# Altium footprint library Harting_DSub.PcbLib: 7 footprints
Each footprint in its own frame and in the unit in brackets; x right, y up, seen from the top. Pads: shape width x height; smd on the part's side, far side on the other; paste and mask are expansions set on the pad; w line width, h text height; cw(c..) or ccw(c..) is an arc to the next point about the centre after c.
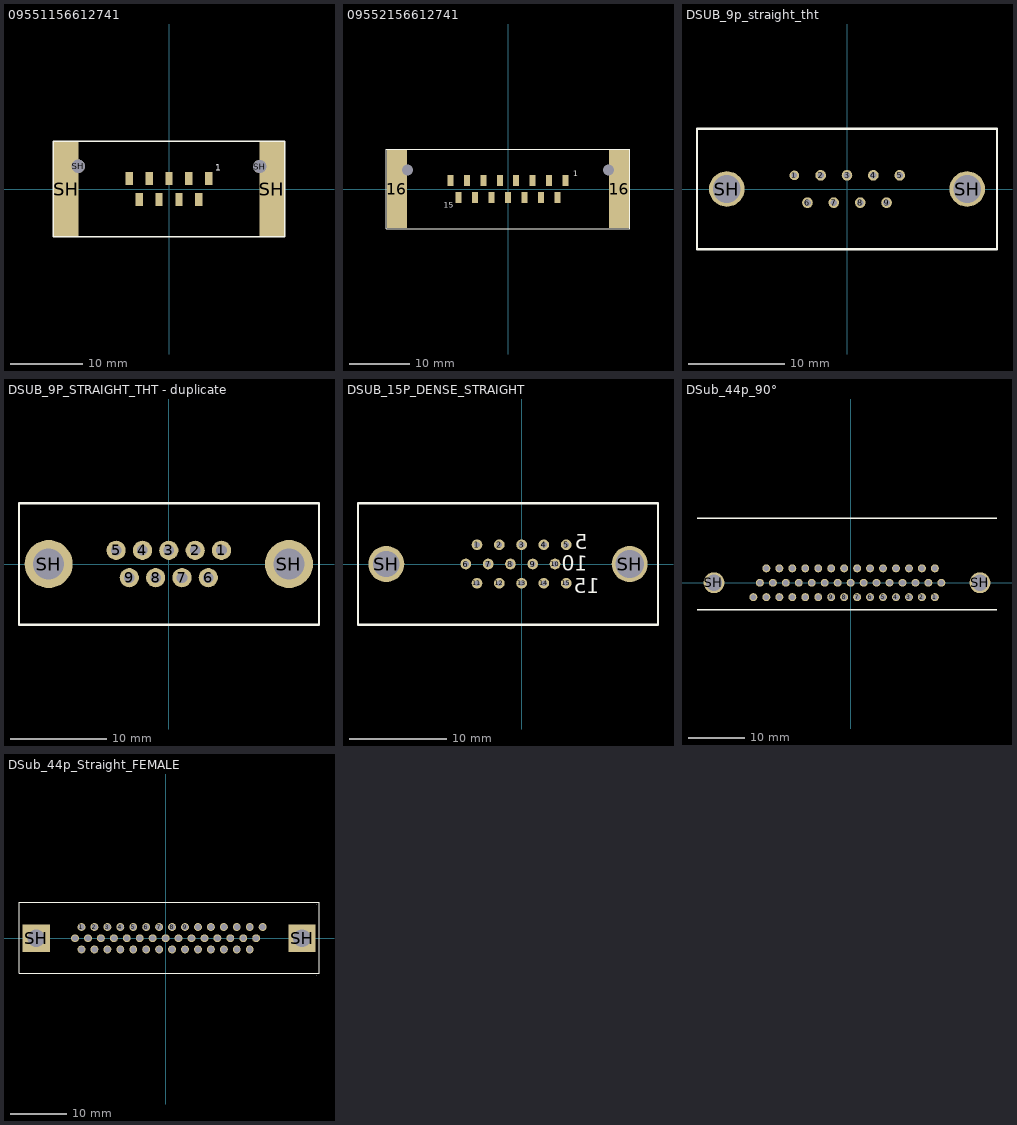
[diagram p0: the footprints below, top view; thin cyan lines are the x and y axes]

## 09551156612741 [mm] "CONN D-SUB RCPT 9POS SMD SOLDER"
pads (13):
  rect 1x1.8 smd: 1(5.48,1.42) 2(2.74,1.42) 3(0,1.42) 4(-2.74,1.42) 5(-5.48,1.42) 6(4.11,-1.42) 7(1.37,-1.42) 8(-1.37,-1.42) 9(-4.11,-1.42)
  rect 3.4x13 smd: SH(-14.2,0) SH(14.2,0)
  round 1.85 hole 1.85 unplated: SH(-12.525,3.15) SH(12.525,3.1)
Top Overlay:
  lines w0.2: -16,-6.6 -16,6.6 16,6.6 16,-6.6 -16,-6.6
  text "1" at 6.4,2.5 h0.9
3D body "0955115X61Y741_100618879MOD000A.STP": height 18.75, standoff 2.65, extent -15.56,-6.7 15.56,6.6

## 09552156612741 [mm] "CONN D-SUB RCPT 15POS SMD SOLDER"
pads (19):
  rect 1x1.8 smd: 1(9.59,1.42) 2(6.85,1.42) 3(4.11,1.42) 4(1.37,1.42) 5(-1.37,1.42) 6(-4.11,1.42) 7(-6.85,1.42) 8(-9.59,1.42) 9(8.22,-1.42) 10(5.48,-1.42) 11(2.74,-1.42) 12(0,-1.42) 13(-2.74,-1.42) 14(-5.48,-1.42) 15(-8.22,-1.42)
  rect 3.4x13 smd: 16(-18.5,0) 16(18.5,0)
  round 1 hole 1.85: 16(-16.75,3.15) 16(16.75,3.15)
Top Overlay:
  lines w0.2: -20.3,-6.6 20.3,-6.6 20.3,6.6 -20.3,6.6 -20.3,-6.6
  text "15" at -10.7,-3.1 h0.9
  text "1" at 10.9,2.1 h0.9
3D body "0955215X61Y741_100618067MOD000A (1).STP": height 18.75, standoff 2.65, extent -19.578,-6.6 19.772,6.7

## DSUB_9p_straight_tht [mm] "Harting 09651617713"
pads (11):
  round 1 hole 0.6: 1(-5.48,1.42)
  round 1.1 hole 0.7: 2(-2.74,1.42) 3(0,1.42) 4(2.74,1.42) 5(5.48,1.42) 6(-4.11,-1.42) 7(-1.37,-1.42) 8(1.37,-1.42) 9(4.11,-1.42)
  round 3.7 hole 2.9: SH(-12.5,0) SH(12.5,0)
Top Overlay:
  lines w0.254: -15.6,-6.25 15.6,-6.25 ; -15.6,-6.2 -15.6,6.2 ; -15.6,6.25 15.6,6.25 ; 15.6,-6.2 15.6,6.2
Bottom Overlay:
  text "1" at -7,0.7 h1.52
  text "5" at 8.1,0.7 h1.52
  text "6" at 6.6,-2.2 h1.52
  text "9" at -5.6,-2.3 h1.52

## DSUB_9P_STRAIGHT_THT - duplicate [mm] "09661117501"
pads (11):
  round 2 hole 1.1: 1(5.48,1.42) 2(2.74,1.42) 3(0,1.42) 4(-2.74,1.42) 5(-5.48,1.42) 6(4.11,-1.42) 7(1.37,-1.42) 8(-1.37,-1.42) 9(-4.11,-1.42)
  round 5 hole 3.2: SH(-12.5,0) SH(12.5,0)
Top Overlay:
  lines w0.254: -15.58,6.2 -15.58,-6.3 15.62,-6.3 15.62,6.2 ; -15.58,6.3 15.62,6.3

## DSUB_15P_DENSE_STRAIGHT [mm] "Harting 09651617713"
pads (17):
  round 1.1 hole 0.6: 1(-4.585,1.98) 2(-2.295,1.98) 3(-0.005,1.98) 4(2.285,1.98) 5(4.575,1.98) 6(-5.73,0) 7(-3.44,0) 8(-1.15,0) 9(1.14,0) 10(3.43,0) 11(-4.585,-1.98) 12(-2.295,-1.98) 13(-0.005,-1.98) 14(2.285,-1.98) 15(4.575,-1.98)
  round 3.7 hole 2.7: SH(-13.9,0)
  round 3.7 hole 2.9: SH(11.1,0)
Top Overlay:
  lines w0.254: -16.805,-6.25 14.005,-6.25 14.005,6.25 -16.805,6.25 -16.805,-6.25
  text "5" at 6.8,1.5 h1.52
  text "10" at 6.8,-0.7 h1.52
  text "15" at 8,-3 h1.52
Bottom Overlay:
  text "1" at -6.3,1.4 h1.52
  text "6" at -6.9,-0.8 h1.52
  text "11" at -6.2,-2.8 h1.52

## DSub_44p_90° [mm] "Harting 09563527613"
pads (46):
  round 1.4 hole 1: 1(14.885,-2.54) 2(12.595,-2.54) 3(10.305,-2.54) 4(8.015,-2.54) 5(5.725,-2.54) 6(3.435,-2.54) 7(1.145,-2.54) 8(-1.145,-2.54) 9(-3.435,-2.54) 10(-5.725,-2.54) 11(-8.015,-2.54) 12(-10.305,-2.54) 13(-12.595,-2.54) 14(-14.885,-2.54) 15(-17.175,-2.54) 16(16.03,0) 17(13.74,0) 18(11.45,0) 19(9.16,0) 20(6.87,0) 21(4.58,0) 22(2.29,0) 23(0,0) 24(-2.29,0) 25(-4.58,0) 26(-6.87,0) 27(-9.16,0) 28(-11.45,0) 29(-13.74,0) 30(-16.03,0) 31(14.885,2.54) 32(12.595,2.54) 33(10.305,2.54) 34(8.015,2.54) 35(5.725,2.54) 36(3.435,2.54) 37(1.145,2.54) 38(-1.145,2.54) 39(-3.435,2.54) 40(-5.725,2.54) 41(-8.015,2.54) 42(-10.305,2.54) 43(-12.595,2.54) 44(-14.885,2.54)
  round 3.7 hole 2.9: SH(-24.14,0) SH(22.86,0)
Top Overlay:
  lines w0.254: -27.14,-4.77 25.86,-4.77 ; -27.14,11.43 25.86,11.43
Bottom Overlay:
  lines w0.254: -27.14,-4.8 -27.14,11.4 ; 25.86,-4.8 25.86,11.4
  text "1" at 16.3,-3.3 h1.52
  text "16" at 17.1,-0.8 h1.52
  text "31" at 16.2,1.7 h1.52
  text "15" at -20.8,-3.2 h1.52
  text "30" at -19.7,-0.8 h1.52
  text "44" at -18.5,1.8 h1.52
3D body "44pin_HD_90degree_tht.STP": height 12.94, standoff -3.99, extent -27.35,-4.8 26.15,17.5

## DSub_44p_Straight_FEMALE [mm] "Harting 09563517512"
pads (46):
  round 1.4 hole 1.05: 1(-14.885,1.98) 2(-12.595,1.98) 3(-10.305,1.98) 4(-8.015,1.98) 5(-5.725,1.98) 6(-3.435,1.98) 7(-1.145,1.98) 8(1.145,1.98) 9(3.435,1.98) 10(5.725,1.98) 11(8.015,1.98) 12(10.305,1.98) 13(12.595,1.98) 14(14.885,1.98) 15(17.175,1.98) 16(-16.03,0) 17(-13.74,0) 18(-11.45,0) 19(-9.16,0) 20(-6.87,0) 21(-4.58,0) 22(-2.29,0) 23(0,0) 24(2.29,0) 25(4.58,0) 26(6.87,0) 27(9.16,0) 28(11.45,0) 29(13.74,0) 30(16.03,0) 31(-14.885,-1.98) 32(-12.595,-1.98) 33(-10.305,-1.98) 34(-8.015,-1.98) 35(-5.725,-1.98) 36(-3.435,-1.98) 37(-1.145,-1.98) 38(1.145,-1.98) 39(3.435,-1.98) 40(5.725,-1.98) 41(8.015,-1.98) 42(10.305,-1.98) 43(12.595,-1.98) 44(14.885,-1.98)
  rect 4.8x4.8 hole 3.15: SH(-22.88,0) SH(24.16,0)
Top Overlay:
  lines w0.2: 26.611,-6.61 26.641,-6.61 ; 26.611,5.94 26.641,5.94 ; 27.111,6.34 -25.939,6.34 -25.939,-6.21 27.141,-6.21 27.141,6.34
Bottom Overlay:
  text "1" at -16.2,2.24 h0.9
  text "44" at 17.5,-3.16 h0.9
3D body "0956361X713_100222367MOD000A.STP": height 6, standoff -10.65, extent -26.166,-6.504 27.334,6.426